# Altium footprint library inductor.PcbLib: 1 footprints
Each footprint in its own frame and in the unit in brackets; x right, y up, seen from the top. Pads: shape width x height; smd on the part's side, far side on the other; paste and mask are expansions set on the pad; w line width, h text height; cw(c..) or ccw(c..) is an arc to the next point about the centre after c.
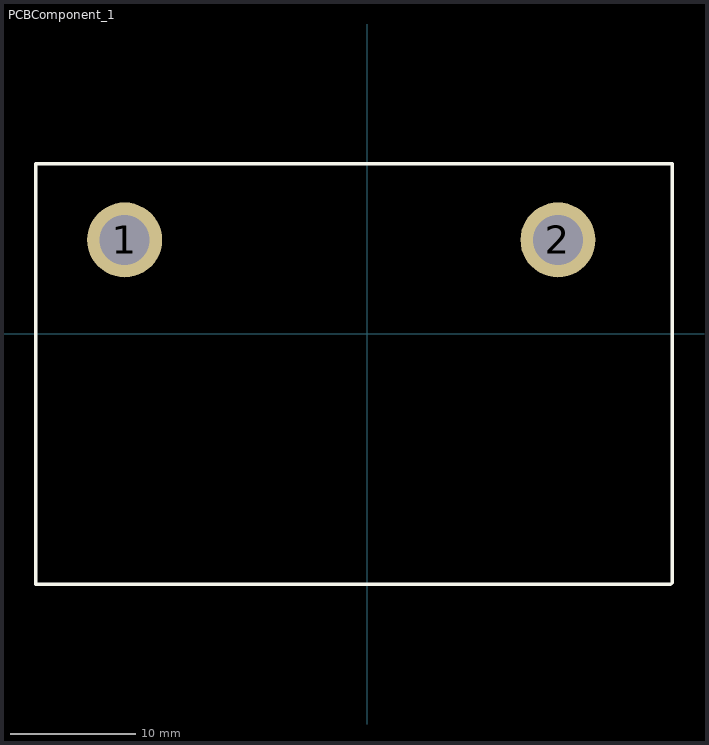
[diagram p0: the footprint, top view; thin cyan lines are the x and y axes]

## PCBComponent_1 [mm]
pads (2):
  round 6 hole 4: 1(-19.431,7.493) 2(15.24,7.493)
Top Overlay:
  lines w0.254: -26.543,12.319 -26.543,13.589 24.384,13.589 24.384,-19.939 24.257,-20.066 -26.543,-20.066 -26.543,12.7